# EAGLE library part IR2130PBF (library International_Rectifier_By_element14_Batch_1)
3-PHASE BRIDGE DRIVER
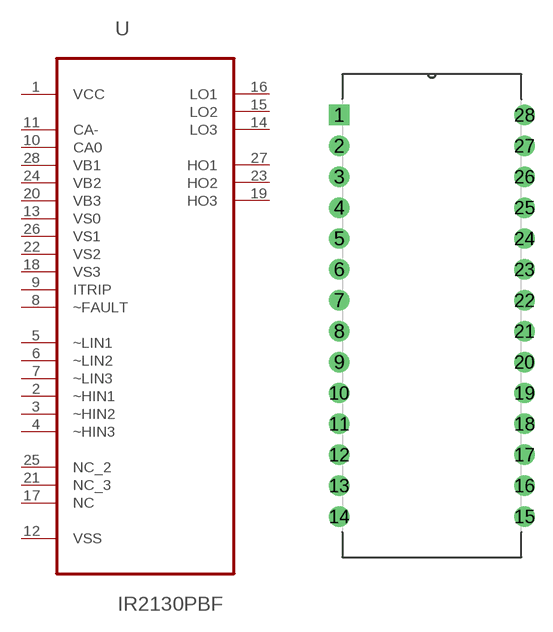
[diagram p62: symbol with the pads of DIP254P1524X635-28; footprint DIP254P1524X635-28]

Designator prefix U

## IR2130PBF (MPN: IR2130PBF; OC_FARNELL: 1822292; OC_NEWARK: 88K5094; PACKAGE: PCDIP-28; SUPPLIER: INTERNATIONAL RECTIFIER)  [DIP254P1524X635-28]
1  VCC  pwr
2  ~HIN1  in
3  ~HIN2  in
4  ~HIN3  in
5  ~LIN1  in
6  ~LIN2  in
7  ~LIN3  in
8  ~FAULT  in
9  ITRIP  in
10  CA0  in
11  CA-  in
12  VSS  pwr
13  VS0  in
14  LO3  out
15  LO2  out
16  LO1  out
17  NC  nc
18  VS3  pwr
19  HO3  out
20  VB3  in
21  NC_3  nc
22  VS2  pwr
23  HO2  out
24  VB2  in
25  NC_2  nc
26  VS1  pwr
27  HO1  out
28  VB1  pwr

## Footprint DIP254P1524X635-28 (pad centres in mm)
drill 1.118 square: 1 -15.24,33.02
drill 1.118: 2 -15.24,30.48; 3 -15.24,27.94; 4 -15.24,25.4; 5 -15.24,22.86; 6 -15.24,20.32; 7 -15.24,17.78; 8 -15.24,15.24; 9 -15.24,12.7; 10 -15.24,10.16; 11 -15.24,7.62; 12 -15.24,5.08; 13 -15.24,2.54; 14 -15.24,0; 15 0,0; 16 0,2.54; 17 0,5.08; 18 0,7.62; 19 0,10.16; 20 0,12.7; 21 0,15.24; 22 0,17.78; 23 0,20.32; 24 0,22.86; 25 0,25.4; 26 0,27.94; 27 0,30.48; 28 0,33.02